# EAGLE library part LM5101 (library Texas Instruments)
LM5101 High Voltage High Side and Low Side Gate Driver (TTL) The LM5101 High Voltage Gate Driver is designed to drive both the high side and the low side N-Channel MOSFETs in a synchronous buck or a half bridge configuration. The floating high-side driver is capable of operating with supply voltages up to 100V. The outputs are independently controlled with TTL input thresholds (LM5101). An integrated high voltage diode is provided to charge the high side gate drive bootstrap capacitor. A robust level shifter operates at high speed while consuming low power and providing clean level transitions from the control logic to the high side gate driver. Under-voltage lockout is provided on both the low side and the high side power rails. This device is available in the standard SOIC-8 pin and the WSON-10 pin packages. Location: MOSFET/Gate Drivers
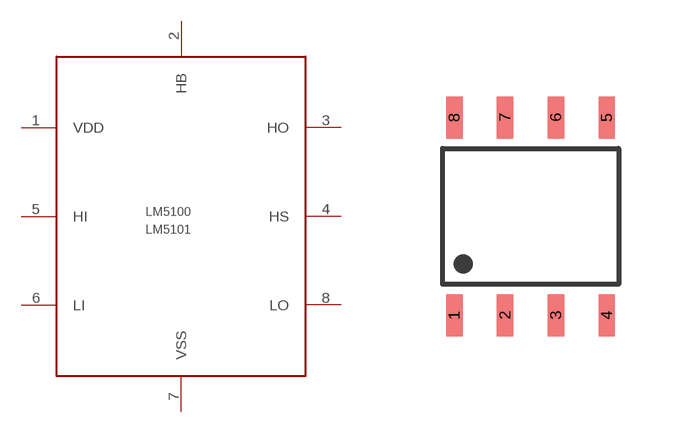
[diagram p1: symbol with the pads of SOIC-8; footprint SOIC-8]

Designator prefix Q

## LM5101SMD  [SOIC-8]
1  VDD  pwr
2  HB
3  HO  out
4  HS
5  HI  in
6  LI  in
7  VSS  pwr
8  LO  out

## Footprint SOIC-8 (pad centres in mm)
smd 0.41 x 1.05: 1 -1.905,-2.475; 2 -0.635,-2.475; 3 0.635,-2.475; 4 1.905,-2.475; 5 1.905,2.475; 6 0.635,2.475; 7 -0.635,2.475; 8 -1.905,2.475